# Altium schematic symbol library Resistor_2512.SchLib: 1 symbol
Pins are listed as number, name and electrical type; pins without a type are passive.

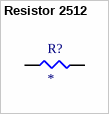
[diagram p0: symbol Resistor 2512]

## Resistor 2512
designator R?
Resistor 2512
footprint Resistor_2512
pins: 1, 2